# EAGLE library part ESP02 (library ESP8266)
ESP8266 Wifi module 02
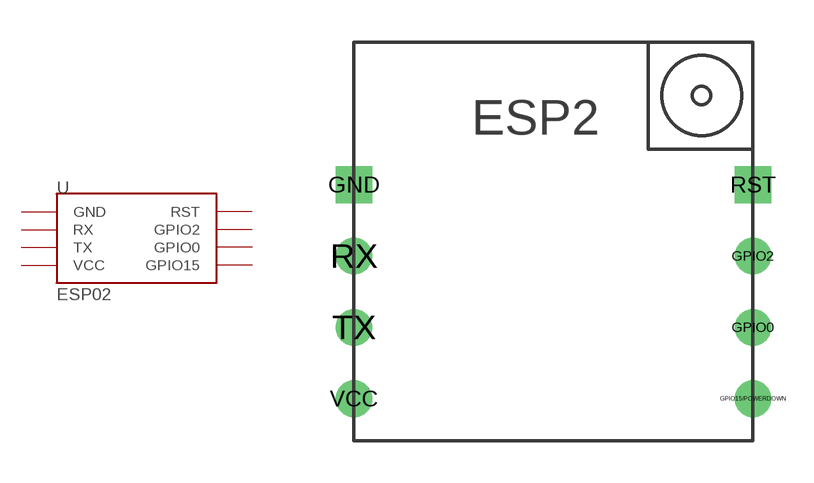
[diagram p2: symbol with the pads of ESP02; footprint ESP02]

Designator prefix -

## ESP02  [ESP02]
GND  GND
GPIO0  GPIO0
GPIO2  GPIO2
GPIO15/POWERDOWN  GPIO15
RST  RST
RX  RX
TX  TX
VCC  VCC

## Footprint ESP02 (pad centres in mm)
ESP8266 Module 02
drill 0.8 square: GND -7,2.92; RST 7.21,2.92
drill 0.8: GPIO0 7.21,-2.16; GPIO2 7.21,0.38; GPIO15/POWERDOWN 7.21,-4.7; RX -7,0.38; TX -7,-2.16; VCC -7,-4.7